# Altium integrated library TI Power Management Linear Regulator Dual Channel LDO.IntLib: 299 symbols (part 11 of 15)
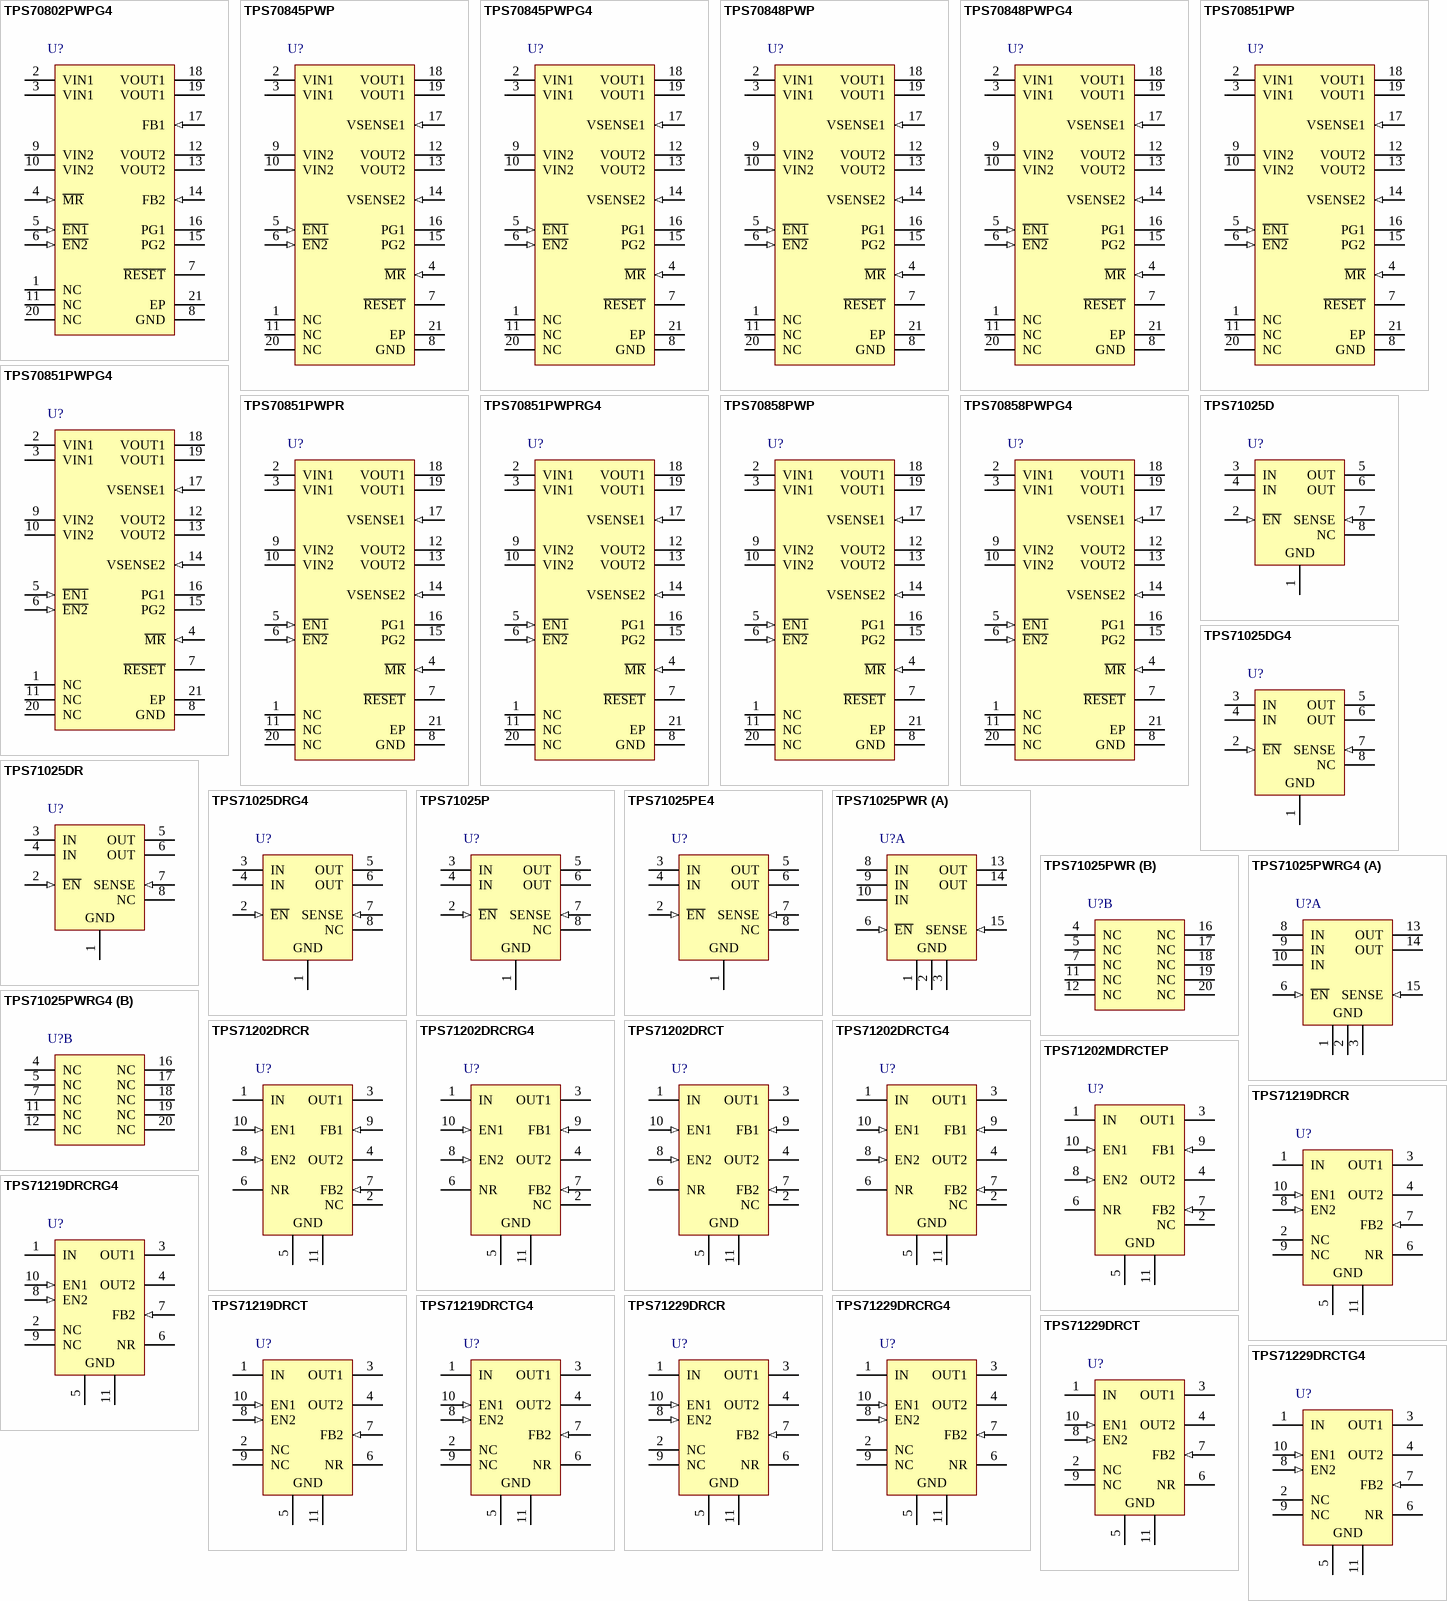
[diagram p21: symbols TPS70802PWPG4 to TPS71229DRCTG4]

## TPS70802PWPG4
designator U?
Dual Output LDO, 500 mA, 2.7 to 6 V Input, with Integrated SVS, 20-pin HTSSOP (PWP), -40 to 125 degC, Green (RoHS & no Sb/Br); Manufacturer: Texas Instruments; PartNumber: TPS70802PWPG4; Iout(Max)(A): 0.5; Iout2(A): 0.2; Iq(Typ)(mA): 0.19; SubFamily: Dual Channel LDO; Vdo(Typ)(mV): 83; Vin(Max)(V): 6; Vin(Min)(V): 2.7; Vout2(Max)(V): 5.5; Vout2(Min)(V): 1.2; DatasheetVersion: SLVS301D; PackageVersion: 4073225-4/I; PackageReference: PWP20-3005X2005TP; PackageDescription: 20-Pin Plastic Small Outline, Body 6.50 x 4.40 mm, Pitch 0.65 mm; Supplier 1: Digi-Key; Supplier Part Number 1: TPS70802PWPG4-ND; Supplier 2: Mouser; Supplier Part Number 2: 595-TPS70802PWPG4; Eco-Plan: Green (RoHS & no Sb/Br); Mounting Technology: Surface Mount; Code_JEDEC: MO-153; ComponentLink1Description: Manufacturer URL; ComponentLink1URL: http://www.ti.com/; ComponentLink2Description: Datasheet; ComponentLink2URL: http://www.ti.com/general/docs/lit/getliterature.tsp?genericPartNumber=TPS70802&fileType=pdf; ComponentLink3Description: Package Specification; ComponentLink3URL: http://www.ti.com/lit/ml/mhts001g/mhts001g.pdf
footprint TI-PWP20-3005X2005TP_N (SOP, 20-Leads, Body 6.5x4.4mm, Pitch 0.65mm, Thermal Pad 3.005 x 2.005mm, IPC Medium Density)
footprint TI-PWP20-3005X2005TP_L (SOP, 20-Leads, Body 6.5x4.4mm, Pitch 0.65mm, Thermal Pad 3.005 x 2.005mm, IPC High Density)
footprint TI-PWP20-3005X2005TP_M (SOP, 20-Leads, Body 6.5x4.4mm, Pitch 0.65mm, Thermal Pad 3.005 x 2.005mm, IPC Low Density)
pins: 1 NC "No connection", 2 VIN1 (power) "Input voltage of regulator 1", 3 VIN1 (power) "Input voltage of regulator 1", 4 ~{MR} (in) "Manual reset input, active low, pulled up internally", 5 ~{EN1} (in) "Active low enable for VOUT1", 6 ~{EN2} (in) "Active low enable for VOUT2", 7 ~{RESET} (hiz) "Open drain output, SVS (power-on reset) signal, active low", 8 GND (power) "Ground", 9 VIN2 (power) "Input voltage of regulator 2", 10 VIN2 (power) "Input voltage of regulator 2", 11 NC "No connection", 12 VOUT2 (power) "Output voltage of regulator 2", 13 VOUT2 (power) "Output voltage of regulator 2", 14 FB2 (in) "regulator 2 feedback for adjustable", 15 PG2 (hiz) "Open drain output, low when VOUT2 voltage is less than 95% of the nominal regulated voltage", 16 PG1 (hiz) "Open drain output, low when VOUT1 voltage is less than 95% of the nominal regulated voltage", 17 FB1 (in) "regulator 1 feedback for adjustable", 18 VOUT1 (power) "Output voltage of regulator 1", 19 VOUT1 (power) "Output voltage of regulator 1", 20 NC "No connection", 21 EP "Thermal pad"

## TPS70845PWP
designator U?
Dual Output LDO, 500 mA, Fixed 3.3, 1.2 V Output, 2.7 to 6 V Input, with Integrated SVS, 20-pin HTSSOP (PWP), -40 to 125 degC, Green (RoHS & no Sb/Br); Manufacturer: Texas Instruments; PartNumber: TPS70845PWP; Iout(Max)(A): 0.5; Iout2(A): 0.2; Iq(Typ)(mA): 0.19; SubFamily: Dual Channel LDO; Vdo(Typ)(mV): 83; Vin(Max)(V): 6; Vin(Min)(V): 2.7; Vout(Max)(V): 3.3; Vout2(Max)(V): 1.2; DatasheetVersion: SLVS301D; PackageVersion: 4073225-4/I; PackageReference: PWP20-3005X2005TP; PackageDescription: 20-Pin Plastic Small Outline, Body 6.50 x 4.40 mm, Pitch 0.65 mm; Supplier 1: Digi-Key; Supplier Part Number 1: 296-8037-5-ND; Supplier 2: Mouser; Supplier Part Number 2: 595-TPS70845PWP; Eco-Plan: Green (RoHS & no Sb/Br); Fixed Output Options(V): 3.3, 1.2; Vout(Min)(V): 3.3; Vout2(Min)(V): 1.2; Mounting Technology: Surface Mount; Code_JEDEC: MO-153; ComponentLink1Description: Manufacturer URL; ComponentLink1URL: http://www.ti.com/; ComponentLink2Description: Datasheet; ComponentLink2URL: http://www.ti.com/general/docs/lit/getliterature.tsp?genericPartNumber=TPS70845&fileType=pdf; ComponentLink3Description: Package Specification; ComponentLink3URL: http://www.ti.com/lit/ml/mhts001g/mhts001g.pdf
footprint TI-PWP20-3005X2005TP_N (SOP, 20-Leads, Body 6.5x4.4mm, Pitch 0.65mm, Thermal Pad 3.005 x 2.005mm, IPC Medium Density)
footprint TI-PWP20-3005X2005TP_L (SOP, 20-Leads, Body 6.5x4.4mm, Pitch 0.65mm, Thermal Pad 3.005 x 2.005mm, IPC High Density)
footprint TI-PWP20-3005X2005TP_M (SOP, 20-Leads, Body 6.5x4.4mm, Pitch 0.65mm, Thermal Pad 3.005 x 2.005mm, IPC Low Density)
pins: 1 NC "No connection", 2 VIN1 (power) "Input voltage of regulator 1", 3 VIN1 (power) "Input voltage of regulator 1", 4 ~{MR} (in) "Manual reset input, active low, pulled up internally", 5 ~{EN1} (in) "Active low enable for VOUT1", 6 ~{EN2} (in) "Active low enable for VOUT2", 7 ~{RESET} (hiz) "Open drain output, SVS (power-on reset) signal, active low", 8 GND (power) "Ground", 9 VIN2 (power) "Input voltage of regulator 2", 10 VIN2 (power) "Input voltage of regulator 2", 11 NC "No connection", 12 VOUT2 (power) "Output voltage of regulator 2", 13 VOUT2 (power) "Output voltage of regulator 2", 14 VSENSE2 (in) "Regulator 2 output voltage sense", 15 PG2 (hiz) "Open drain output, low when VOUT2 voltage is less than 95% of the nominal regulated voltage", 16 PG1 (hiz) "Open drain output, low when VOUT1 voltage is less than 95% of the nominal regulated voltage", 17 VSENSE1 (in) "Regulator 1 output voltage sense", 18 VOUT1 (power) "Output voltage of regulator 1", 19 VOUT1 (power) "Output voltage of regulator 1", 20 NC "No connection", 21 EP "Thermal pad"

## TPS70845PWPG4
designator U?
Dual Output LDO, 500 mA, Fixed 3.3, 1.2 V Output, 2.7 to 6 V Input, with Integrated SVS, 20-pin HTSSOP (PWP), -40 to 125 degC, Green (RoHS & no Sb/Br); Manufacturer: Texas Instruments; PartNumber: TPS70845PWPG4; Iout(Max)(A): 0.5; Iout2(A): 0.2; Iq(Typ)(mA): 0.19; SubFamily: Dual Channel LDO; Vdo(Typ)(mV): 83; Vin(Max)(V): 6; Vin(Min)(V): 2.7; Vout(Max)(V): 3.3; Vout2(Max)(V): 1.2; DatasheetVersion: SLVS301D; PackageVersion: 4073225-4/I; PackageReference: PWP20-3005X2005TP; PackageDescription: 20-Pin Plastic Small Outline, Body 6.50 x 4.40 mm, Pitch 0.65 mm; Supplier 1: Digi-Key; Supplier Part Number 1: TPS70845PWPG4-ND; Supplier 2: Mouser; Supplier Part Number 2: 595-TPS70845PWPG4; Eco-Plan: Green (RoHS & no Sb/Br); Fixed Output Options(V): 3.3, 1.2; Vout(Min)(V): 3.3; Vout2(Min)(V): 1.2; Mounting Technology: Surface Mount; Code_JEDEC: MO-153; ComponentLink1Description: Manufacturer URL; ComponentLink1URL: http://www.ti.com/; ComponentLink2Description: Datasheet; ComponentLink2URL: http://www.ti.com/general/docs/lit/getliterature.tsp?genericPartNumber=TPS70845&fileType=pdf; ComponentLink3Description: Package Specification; ComponentLink3URL: http://www.ti.com/lit/ml/mhts001g/mhts001g.pdf
footprint TI-PWP20-3005X2005TP_N (SOP, 20-Leads, Body 6.5x4.4mm, Pitch 0.65mm, Thermal Pad 3.005 x 2.005mm, IPC Medium Density)
footprint TI-PWP20-3005X2005TP_L (SOP, 20-Leads, Body 6.5x4.4mm, Pitch 0.65mm, Thermal Pad 3.005 x 2.005mm, IPC High Density)
footprint TI-PWP20-3005X2005TP_M (SOP, 20-Leads, Body 6.5x4.4mm, Pitch 0.65mm, Thermal Pad 3.005 x 2.005mm, IPC Low Density)
pins: 1 NC "No connection", 2 VIN1 (power) "Input voltage of regulator 1", 3 VIN1 (power) "Input voltage of regulator 1", 4 ~{MR} (in) "Manual reset input, active low, pulled up internally", 5 ~{EN1} (in) "Active low enable for VOUT1", 6 ~{EN2} (in) "Active low enable for VOUT2", 7 ~{RESET} (hiz) "Open drain output, SVS (power-on reset) signal, active low", 8 GND (power) "Ground", 9 VIN2 (power) "Input voltage of regulator 2", 10 VIN2 (power) "Input voltage of regulator 2", 11 NC "No connection", 12 VOUT2 (power) "Output voltage of regulator 2", 13 VOUT2 (power) "Output voltage of regulator 2", 14 VSENSE2 (in) "Regulator 2 output voltage sense", 15 PG2 (hiz) "Open drain output, low when VOUT2 voltage is less than 95% of the nominal regulated voltage", 16 PG1 (hiz) "Open drain output, low when VOUT1 voltage is less than 95% of the nominal regulated voltage", 17 VSENSE1 (in) "Regulator 1 output voltage sense", 18 VOUT1 (power) "Output voltage of regulator 1", 19 VOUT1 (power) "Output voltage of regulator 1", 20 NC "No connection", 21 EP "Thermal pad"

## TPS70848PWP
designator U?
Dual Output LDO, 500 mA, Fixed 3.3, 1.5 V Output, 2.7 to 6 V Input, with Integrated SVS, 20-pin HTSSOP (PWP), -40 to 125 degC, Green (RoHS & no Sb/Br); Manufacturer: Texas Instruments; PartNumber: TPS70848PWP; Iout(Max)(A): 0.5; Iout2(A): 0.2; Iq(Typ)(mA): 0.19; SubFamily: Dual Channel LDO; Vdo(Typ)(mV): 83; Vin(Max)(V): 6; Vin(Min)(V): 2.7; Vout(Max)(V): 3.3; Vout2(Max)(V): 1.5; DatasheetVersion: SLVS301D; PackageVersion: 4073225-4/I; PackageReference: PWP20-3005X2005TP; PackageDescription: 20-Pin Plastic Small Outline, Body 6.50 x 4.40 mm, Pitch 0.65 mm; Supplier 1: Digi-Key; Supplier Part Number 1: 296-8038-5-ND; Supplier 2: Newark; Supplier Part Number 2: 77C0794; Supplier 3: Mouser; Supplier Part Number 3: 595-TPS70848PWP; Eco-Plan: Green (RoHS & no Sb/Br); Fixed Output Options(V): 3.3, 1.5; Vout(Min)(V): 3.3; Vout2(Min)(V): 1.5; Mounting Technology: Surface Mount; Code_JEDEC: MO-153; ComponentLink1Description: Manufacturer URL; ComponentLink1URL: http://www.ti.com/; ComponentLink2Description: Datasheet; ComponentLink2URL: http://www.ti.com/general/docs/lit/getliterature.tsp?genericPartNumber=TPS70848&fileType=pdf; ComponentLink3Description: Package Specification; ComponentLink3URL: http://www.ti.com/lit/ml/mhts001g/mhts001g.pdf
footprint TI-PWP20-3005X2005TP_N (SOP, 20-Leads, Body 6.5x4.4mm, Pitch 0.65mm, Thermal Pad 3.005 x 2.005mm, IPC Medium Density)
footprint TI-PWP20-3005X2005TP_L (SOP, 20-Leads, Body 6.5x4.4mm, Pitch 0.65mm, Thermal Pad 3.005 x 2.005mm, IPC High Density)
footprint TI-PWP20-3005X2005TP_M (SOP, 20-Leads, Body 6.5x4.4mm, Pitch 0.65mm, Thermal Pad 3.005 x 2.005mm, IPC Low Density)
pins: 1 NC "No connection", 2 VIN1 (power) "Input voltage of regulator 1", 3 VIN1 (power) "Input voltage of regulator 1", 4 ~{MR} (in) "Manual reset input, active low, pulled up internally", 5 ~{EN1} (in) "Active low enable for VOUT1", 6 ~{EN2} (in) "Active low enable for VOUT2", 7 ~{RESET} (hiz) "Open drain output, SVS (power-on reset) signal, active low", 8 GND (power) "Ground", 9 VIN2 (power) "Input voltage of regulator 2", 10 VIN2 (power) "Input voltage of regulator 2", 11 NC "No connection", 12 VOUT2 (power) "Output voltage of regulator 2", 13 VOUT2 (power) "Output voltage of regulator 2", 14 VSENSE2 (in) "Regulator 2 output voltage sense", 15 PG2 (hiz) "Open drain output, low when VOUT2 voltage is less than 95% of the nominal regulated voltage", 16 PG1 (hiz) "Open drain output, low when VOUT1 voltage is less than 95% of the nominal regulated voltage", 17 VSENSE1 (in) "Regulator 1 output voltage sense", 18 VOUT1 (power) "Output voltage of regulator 1", 19 VOUT1 (power) "Output voltage of regulator 1", 20 NC "No connection", 21 EP "Thermal pad"

## TPS70848PWPG4
designator U?
Dual Output LDO, 500 mA, Fixed 3.3, 1.5 V Output, 2.7 to 6 V Input, with Integrated SVS, 20-pin HTSSOP (PWP), -40 to 125 degC, Green (RoHS & no Sb/Br); Manufacturer: Texas Instruments; PartNumber: TPS70848PWPG4; Iout(Max)(A): 0.5; Iout2(A): 0.2; Iq(Typ)(mA): 0.19; SubFamily: Dual Channel LDO; Vdo(Typ)(mV): 83; Vin(Max)(V): 6; Vin(Min)(V): 2.7; Vout(Max)(V): 3.3; Vout2(Max)(V): 1.5; DatasheetVersion: SLVS301D; PackageVersion: 4073225-4/I; PackageReference: PWP20-3005X2005TP; PackageDescription: 20-Pin Plastic Small Outline, Body 6.50 x 4.40 mm, Pitch 0.65 mm; Supplier 1: Digi-Key; Supplier Part Number 1: TPS70848PWPG4-ND; Supplier 2: Mouser; Supplier Part Number 2: 595-TPS70848PWPG4; Eco-Plan: Green (RoHS & no Sb/Br); Fixed Output Options(V): 3.3, 1.5; Vout(Min)(V): 3.3; Vout2(Min)(V): 1.5; Mounting Technology: Surface Mount; Code_JEDEC: MO-153; ComponentLink1Description: Manufacturer URL; ComponentLink1URL: http://www.ti.com/; ComponentLink2Description: Datasheet; ComponentLink2URL: http://www.ti.com/general/docs/lit/getliterature.tsp?genericPartNumber=TPS70848&fileType=pdf; ComponentLink3Description: Package Specification; ComponentLink3URL: http://www.ti.com/lit/ml/mhts001g/mhts001g.pdf
footprint TI-PWP20-3005X2005TP_N (SOP, 20-Leads, Body 6.5x4.4mm, Pitch 0.65mm, Thermal Pad 3.005 x 2.005mm, IPC Medium Density)
footprint TI-PWP20-3005X2005TP_L (SOP, 20-Leads, Body 6.5x4.4mm, Pitch 0.65mm, Thermal Pad 3.005 x 2.005mm, IPC High Density)
footprint TI-PWP20-3005X2005TP_M (SOP, 20-Leads, Body 6.5x4.4mm, Pitch 0.65mm, Thermal Pad 3.005 x 2.005mm, IPC Low Density)
pins: 1 NC "No connection", 2 VIN1 (power) "Input voltage of regulator 1", 3 VIN1 (power) "Input voltage of regulator 1", 4 ~{MR} (in) "Manual reset input, active low, pulled up internally", 5 ~{EN1} (in) "Active low enable for VOUT1", 6 ~{EN2} (in) "Active low enable for VOUT2", 7 ~{RESET} (hiz) "Open drain output, SVS (power-on reset) signal, active low", 8 GND (power) "Ground", 9 VIN2 (power) "Input voltage of regulator 2", 10 VIN2 (power) "Input voltage of regulator 2", 11 NC "No connection", 12 VOUT2 (power) "Output voltage of regulator 2", 13 VOUT2 (power) "Output voltage of regulator 2", 14 VSENSE2 (in) "Regulator 2 output voltage sense", 15 PG2 (hiz) "Open drain output, low when VOUT2 voltage is less than 95% of the nominal regulated voltage", 16 PG1 (hiz) "Open drain output, low when VOUT1 voltage is less than 95% of the nominal regulated voltage", 17 VSENSE1 (in) "Regulator 1 output voltage sense", 18 VOUT1 (power) "Output voltage of regulator 1", 19 VOUT1 (power) "Output voltage of regulator 1", 20 NC "No connection", 21 EP "Thermal pad"

## TPS70851PWP
designator U?
Dual Output LDO, 500 mA, Fixed 3.3, 1.8 V Output, 2.7 to 6 V Input, with Integrated SVS, 20-pin HTSSOP (PWP), -40 to 125 degC, Green (RoHS & no Sb/Br); Manufacturer: Texas Instruments; PartNumber: TPS70851PWP; Iout(Max)(A): 0.5; Iout2(A): 0.2; Iq(Typ)(mA): 0.19; SubFamily: Dual Channel LDO; Vdo(Typ)(mV): 83; Vin(Max)(V): 6; Vin(Min)(V): 2.7; Vout(Max)(V): 3.3; Vout2(Max)(V): 1.8; DatasheetVersion: SLVS301D; PackageVersion: 4073225-4/I; PackageReference: PWP20-3005X2005TP; PackageDescription: 20-Pin Plastic Small Outline, Body 6.50 x 4.40 mm, Pitch 0.65 mm; Supplier 1: Digi-Key; Supplier Part Number 1: 296-8039-5-ND; Supplier 2: Newark; Supplier Part Number 2: 77C0796; Supplier 3: Mouser; Supplier Part Number 3: 595-TPS70851PWP; Eco-Plan: Green (RoHS & no Sb/Br); Fixed Output Options(V): 3.3, 1.8; Vout(Min)(V): 3.3; Vout2(Min)(V): 1.8; Mounting Technology: Surface Mount; Code_JEDEC: MO-153; ComponentLink1Description: Manufacturer URL; ComponentLink1URL: http://www.ti.com/; ComponentLink2Description: Datasheet; ComponentLink2URL: http://www.ti.com/general/docs/lit/getliterature.tsp?genericPartNumber=TPS70851&fileType=pdf; ComponentLink3Description: Package Specification; ComponentLink3URL: http://www.ti.com/lit/ml/mhts001g/mhts001g.pdf
footprint TI-PWP20-3005X2005TP_N (SOP, 20-Leads, Body 6.5x4.4mm, Pitch 0.65mm, Thermal Pad 3.005 x 2.005mm, IPC Medium Density)
footprint TI-PWP20-3005X2005TP_L (SOP, 20-Leads, Body 6.5x4.4mm, Pitch 0.65mm, Thermal Pad 3.005 x 2.005mm, IPC High Density)
footprint TI-PWP20-3005X2005TP_M (SOP, 20-Leads, Body 6.5x4.4mm, Pitch 0.65mm, Thermal Pad 3.005 x 2.005mm, IPC Low Density)
pins: 1 NC "No connection", 2 VIN1 (power) "Input voltage of regulator 1", 3 VIN1 (power) "Input voltage of regulator 1", 4 ~{MR} (in) "Manual reset input, active low, pulled up internally", 5 ~{EN1} (in) "Active low enable for VOUT1", 6 ~{EN2} (in) "Active low enable for VOUT2", 7 ~{RESET} (hiz) "Open drain output, SVS (power-on reset) signal, active low", 8 GND (power) "Ground", 9 VIN2 (power) "Input voltage of regulator 2", 10 VIN2 (power) "Input voltage of regulator 2", 11 NC "No connection", 12 VOUT2 (power) "Output voltage of regulator 2", 13 VOUT2 (power) "Output voltage of regulator 2", 14 VSENSE2 (in) "Regulator 2 output voltage sense", 15 PG2 (hiz) "Open drain output, low when VOUT2 voltage is less than 95% of the nominal regulated voltage", 16 PG1 (hiz) "Open drain output, low when VOUT1 voltage is less than 95% of the nominal regulated voltage", 17 VSENSE1 (in) "Regulator 1 output voltage sense", 18 VOUT1 (power) "Output voltage of regulator 1", 19 VOUT1 (power) "Output voltage of regulator 1", 20 NC "No connection", 21 EP "Thermal pad"

## TPS70851PWPG4
designator U?
Dual Output LDO, 500 mA, Fixed 3.3, 1.8 V Output, 2.7 to 6 V Input, with Integrated SVS, 20-pin HTSSOP (PWP), -40 to 125 degC, Green (RoHS & no Sb/Br); Manufacturer: Texas Instruments; PartNumber: TPS70851PWPG4; Iout(Max)(A): 0.5; Iout2(A): 0.2; Iq(Typ)(mA): 0.19; SubFamily: Dual Channel LDO; Vdo(Typ)(mV): 83; Vin(Max)(V): 6; Vin(Min)(V): 2.7; Vout(Max)(V): 3.3; Vout2(Max)(V): 1.8; DatasheetVersion: SLVS301D; PackageVersion: 4073225-4/I; PackageReference: PWP20-3005X2005TP; PackageDescription: 20-Pin Plastic Small Outline, Body 6.50 x 4.40 mm, Pitch 0.65 mm; Supplier 1: Digi-Key; Supplier Part Number 1: TPS70851PWPG4-ND; Supplier 2: Newark; Supplier Part Number 2: 70K5767; Supplier 3: Mouser; Supplier Part Number 3: 595-TPS70851PWPG4; Eco-Plan: Green (RoHS & no Sb/Br); Fixed Output Options(V): 3.3, 1.8; Vout(Min)(V): 3.3; Vout2(Min)(V): 1.8; Mounting Technology: Surface Mount; Code_JEDEC: MO-153; ComponentLink1Description: Manufacturer URL; ComponentLink1URL: http://www.ti.com/; ComponentLink2Description: Datasheet; ComponentLink2URL: http://www.ti.com/general/docs/lit/getliterature.tsp?genericPartNumber=TPS70851&fileType=pdf; ComponentLink3Description: Package Specification; ComponentLink3URL: http://www.ti.com/lit/ml/mhts001g/mhts001g.pdf
footprint TI-PWP20-3005X2005TP_N (SOP, 20-Leads, Body 6.5x4.4mm, Pitch 0.65mm, Thermal Pad 3.005 x 2.005mm, IPC Medium Density)
footprint TI-PWP20-3005X2005TP_L (SOP, 20-Leads, Body 6.5x4.4mm, Pitch 0.65mm, Thermal Pad 3.005 x 2.005mm, IPC High Density)
footprint TI-PWP20-3005X2005TP_M (SOP, 20-Leads, Body 6.5x4.4mm, Pitch 0.65mm, Thermal Pad 3.005 x 2.005mm, IPC Low Density)
pins: 1 NC "No connection", 2 VIN1 (power) "Input voltage of regulator 1", 3 VIN1 (power) "Input voltage of regulator 1", 4 ~{MR} (in) "Manual reset input, active low, pulled up internally", 5 ~{EN1} (in) "Active low enable for VOUT1", 6 ~{EN2} (in) "Active low enable for VOUT2", 7 ~{RESET} (hiz) "Open drain output, SVS (power-on reset) signal, active low", 8 GND (power) "Ground", 9 VIN2 (power) "Input voltage of regulator 2", 10 VIN2 (power) "Input voltage of regulator 2", 11 NC "No connection", 12 VOUT2 (power) "Output voltage of regulator 2", 13 VOUT2 (power) "Output voltage of regulator 2", 14 VSENSE2 (in) "Regulator 2 output voltage sense", 15 PG2 (hiz) "Open drain output, low when VOUT2 voltage is less than 95% of the nominal regulated voltage", 16 PG1 (hiz) "Open drain output, low when VOUT1 voltage is less than 95% of the nominal regulated voltage", 17 VSENSE1 (in) "Regulator 1 output voltage sense", 18 VOUT1 (power) "Output voltage of regulator 1", 19 VOUT1 (power) "Output voltage of regulator 1", 20 NC "No connection", 21 EP "Thermal pad"

## TPS70851PWPR
designator U?
Dual Output LDO, 500 mA, Fixed 3.3, 1.8 V Output, 2.7 to 6 V Input, with Integrated SVS, 20-pin HTSSOP (PWP), -40 to 125 degC, Green (RoHS & no Sb/Br); Manufacturer: Texas Instruments; PartNumber: TPS70851PWPR; Iout(Max)(A): 0.5; Iout2(A): 0.2; Iq(Typ)(mA): 0.19; SubFamily: Dual Channel LDO; Vdo(Typ)(mV): 83; Vin(Max)(V): 6; Vin(Min)(V): 2.7; Vout(Max)(V): 3.3; Vout2(Max)(V): 1.8; DatasheetVersion: SLVS301D; PackageVersion: 4073225-4/I; PackageReference: PWP20-3005X2005TP; PackageDescription: 20-Pin Plastic Small Outline, Body 6.50 x 4.40 mm, Pitch 0.65 mm; Supplier 1: Digi-Key; Supplier Part Number 1: TPS70851PWPR-ND; Supplier 2: Mouser; Supplier Part Number 2: 595-TPS70851PWPR; Eco-Plan: Green (RoHS & no Sb/Br); Fixed Output Options(V): 3.3, 1.8; Vout(Min)(V): 3.3; Vout2(Min)(V): 1.8; Mounting Technology: Surface Mount; Code_JEDEC: MO-153; ComponentLink1Description: Manufacturer URL; ComponentLink1URL: http://www.ti.com/; ComponentLink2Description: Datasheet; ComponentLink2URL: http://www.ti.com/general/docs/lit/getliterature.tsp?genericPartNumber=TPS70851&fileType=pdf; ComponentLink3Description: Package Specification; ComponentLink3URL: http://www.ti.com/lit/ml/mhts001g/mhts001g.pdf
footprint TI-PWP20-3005X2005TP_N (SOP, 20-Leads, Body 6.5x4.4mm, Pitch 0.65mm, Thermal Pad 3.005 x 2.005mm, IPC Medium Density)
footprint TI-PWP20-3005X2005TP_L (SOP, 20-Leads, Body 6.5x4.4mm, Pitch 0.65mm, Thermal Pad 3.005 x 2.005mm, IPC High Density)
footprint TI-PWP20-3005X2005TP_M (SOP, 20-Leads, Body 6.5x4.4mm, Pitch 0.65mm, Thermal Pad 3.005 x 2.005mm, IPC Low Density)
pins: 1 NC "No connection", 2 VIN1 (power) "Input voltage of regulator 1", 3 VIN1 (power) "Input voltage of regulator 1", 4 ~{MR} (in) "Manual reset input, active low, pulled up internally", 5 ~{EN1} (in) "Active low enable for VOUT1", 6 ~{EN2} (in) "Active low enable for VOUT2", 7 ~{RESET} (hiz) "Open drain output, SVS (power-on reset) signal, active low", 8 GND (power) "Ground", 9 VIN2 (power) "Input voltage of regulator 2", 10 VIN2 (power) "Input voltage of regulator 2", 11 NC "No connection", 12 VOUT2 (power) "Output voltage of regulator 2", 13 VOUT2 (power) "Output voltage of regulator 2", 14 VSENSE2 (in) "Regulator 2 output voltage sense", 15 PG2 (hiz) "Open drain output, low when VOUT2 voltage is less than 95% of the nominal regulated voltage", 16 PG1 (hiz) "Open drain output, low when VOUT1 voltage is less than 95% of the nominal regulated voltage", 17 VSENSE1 (in) "Regulator 1 output voltage sense", 18 VOUT1 (power) "Output voltage of regulator 1", 19 VOUT1 (power) "Output voltage of regulator 1", 20 NC "No connection", 21 EP "Thermal pad"

## TPS70851PWPRG4
designator U?
Dual Output LDO, 500 mA, Fixed 3.3, 1.8 V Output, 2.7 to 6 V Input, with Integrated SVS, 20-pin HTSSOP (PWP), -40 to 125 degC, Green (RoHS & no Sb/Br); Manufacturer: Texas Instruments; PartNumber: TPS70851PWPRG4; Iout(Max)(A): 0.5; Iout2(A): 0.2; Iq(Typ)(mA): 0.19; SubFamily: Dual Channel LDO; Vdo(Typ)(mV): 83; Vin(Max)(V): 6; Vin(Min)(V): 2.7; Vout(Max)(V): 3.3; Vout2(Max)(V): 1.8; DatasheetVersion: SLVS301D; PackageVersion: 4073225-4/I; PackageReference: PWP20-3005X2005TP; PackageDescription: 20-Pin Plastic Small Outline, Body 6.50 x 4.40 mm, Pitch 0.65 mm; Supplier 1: Digi-Key; Supplier Part Number 1: TPS70851PWPRG4-ND; Supplier 2: Mouser; Supplier Part Number 2: 595-TPS70851PWPRG4; Eco-Plan: Green (RoHS & no Sb/Br); Fixed Output Options(V): 3.3, 1.8; Vout(Min)(V): 3.3; Vout2(Min)(V): 1.8; Mounting Technology: Surface Mount; Code_JEDEC: MO-153; ComponentLink1Description: Manufacturer URL; ComponentLink1URL: http://www.ti.com/; ComponentLink2Description: Datasheet; ComponentLink2URL: http://www.ti.com/general/docs/lit/getliterature.tsp?genericPartNumber=TPS70851&fileType=pdf; ComponentLink3Description: Package Specification; ComponentLink3URL: http://www.ti.com/lit/ml/mhts001g/mhts001g.pdf
footprint TI-PWP20-3005X2005TP_N (SOP, 20-Leads, Body 6.5x4.4mm, Pitch 0.65mm, Thermal Pad 3.005 x 2.005mm, IPC Medium Density)
footprint TI-PWP20-3005X2005TP_L (SOP, 20-Leads, Body 6.5x4.4mm, Pitch 0.65mm, Thermal Pad 3.005 x 2.005mm, IPC High Density)
footprint TI-PWP20-3005X2005TP_M (SOP, 20-Leads, Body 6.5x4.4mm, Pitch 0.65mm, Thermal Pad 3.005 x 2.005mm, IPC Low Density)
pins: 1 NC "No connection", 2 VIN1 (power) "Input voltage of regulator 1", 3 VIN1 (power) "Input voltage of regulator 1", 4 ~{MR} (in) "Manual reset input, active low, pulled up internally", 5 ~{EN1} (in) "Active low enable for VOUT1", 6 ~{EN2} (in) "Active low enable for VOUT2", 7 ~{RESET} (hiz) "Open drain output, SVS (power-on reset) signal, active low", 8 GND (power) "Ground", 9 VIN2 (power) "Input voltage of regulator 2", 10 VIN2 (power) "Input voltage of regulator 2", 11 NC "No connection", 12 VOUT2 (power) "Output voltage of regulator 2", 13 VOUT2 (power) "Output voltage of regulator 2", 14 VSENSE2 (in) "Regulator 2 output voltage sense", 15 PG2 (hiz) "Open drain output, low when VOUT2 voltage is less than 95% of the nominal regulated voltage", 16 PG1 (hiz) "Open drain output, low when VOUT1 voltage is less than 95% of the nominal regulated voltage", 17 VSENSE1 (in) "Regulator 1 output voltage sense", 18 VOUT1 (power) "Output voltage of regulator 1", 19 VOUT1 (power) "Output voltage of regulator 1", 20 NC "No connection", 21 EP "Thermal pad"

## TPS70858PWP
designator U?
Dual Output LDO, 500 mA, Fixed 3.3, 2.5 V Output, 2.7 to 6 V Input, with Integrated SVS, 20-pin HTSSOP (PWP), -40 to 125 degC, Green (RoHS & no Sb/Br); Manufacturer: Texas Instruments; PartNumber: TPS70858PWP; Iout(Max)(A): 0.5; Iout2(A): 0.2; Iq(Typ)(mA): 0.19; SubFamily: Dual Channel LDO; Vdo(Typ)(mV): 83; Vin(Max)(V): 6; Vin(Min)(V): 2.7; Vout(Max)(V): 3.3; Vout2(Max)(V): 2.5; DatasheetVersion: SLVS301D; PackageVersion: 4073225-4/I; PackageReference: PWP20-3005X2005TP; PackageDescription: 20-Pin Plastic Small Outline, Body 6.50 x 4.40 mm, Pitch 0.65 mm; Supplier 1: Digi-Key; Supplier Part Number 1: 296-8040-5-ND; Supplier 2: Mouser; Supplier Part Number 2: 595-TPS70858PWP; Eco-Plan: Green (RoHS & no Sb/Br); Fixed Output Options(V): 3.3, 2.5; Vout(Min)(V): 3.3; Vout2(Min)(V): 2.5; Mounting Technology: Surface Mount; Code_JEDEC: MO-153; ComponentLink1Description: Manufacturer URL; ComponentLink1URL: http://www.ti.com/; ComponentLink2Description: Datasheet; ComponentLink2URL: http://www.ti.com/general/docs/lit/getliterature.tsp?genericPartNumber=TPS70858&fileType=pdf; ComponentLink3Description: Package Specification; ComponentLink3URL: http://www.ti.com/lit/ml/mhts001g/mhts001g.pdf
footprint TI-PWP20-3005X2005TP_N (SOP, 20-Leads, Body 6.5x4.4mm, Pitch 0.65mm, Thermal Pad 3.005 x 2.005mm, IPC Medium Density)
footprint TI-PWP20-3005X2005TP_L (SOP, 20-Leads, Body 6.5x4.4mm, Pitch 0.65mm, Thermal Pad 3.005 x 2.005mm, IPC High Density)
footprint TI-PWP20-3005X2005TP_M (SOP, 20-Leads, Body 6.5x4.4mm, Pitch 0.65mm, Thermal Pad 3.005 x 2.005mm, IPC Low Density)
pins: 1 NC "No connection", 2 VIN1 (power) "Input voltage of regulator 1", 3 VIN1 (power) "Input voltage of regulator 1", 4 ~{MR} (in) "Manual reset input, active low, pulled up internally", 5 ~{EN1} (in) "Active low enable for VOUT1", 6 ~{EN2} (in) "Active low enable for VOUT2", 7 ~{RESET} (hiz) "Open drain output, SVS (power-on reset) signal, active low", 8 GND (power) "Ground", 9 VIN2 (power) "Input voltage of regulator 2", 10 VIN2 (power) "Input voltage of regulator 2", 11 NC "No connection", 12 VOUT2 (power) "Output voltage of regulator 2", 13 VOUT2 (power) "Output voltage of regulator 2", 14 VSENSE2 (in) "Regulator 2 output voltage sense", 15 PG2 (hiz) "Open drain output, low when VOUT2 voltage is less than 95% of the nominal regulated voltage", 16 PG1 (hiz) "Open drain output, low when VOUT1 voltage is less than 95% of the nominal regulated voltage", 17 VSENSE1 (in) "Regulator 1 output voltage sense", 18 VOUT1 (power) "Output voltage of regulator 1", 19 VOUT1 (power) "Output voltage of regulator 1", 20 NC "No connection", 21 EP "Thermal pad"

## TPS70858PWPG4
designator U?
Dual Output LDO, 500 mA, Fixed 3.3, 2.5 V Output, 2.7 to 6 V Input, with Integrated SVS, 20-pin HTSSOP (PWP), -40 to 125 degC, Green (RoHS & no Sb/Br); Manufacturer: Texas Instruments; PartNumber: TPS70858PWPG4; Iout(Max)(A): 0.5; Iout2(A): 0.2; Iq(Typ)(mA): 0.19; SubFamily: Dual Channel LDO; Vdo(Typ)(mV): 83; Vin(Max)(V): 6; Vin(Min)(V): 2.7; Vout(Max)(V): 3.3; Vout2(Max)(V): 2.5; DatasheetVersion: SLVS301D; PackageVersion: 4073225-4/I; PackageReference: PWP20-3005X2005TP; PackageDescription: 20-Pin Plastic Small Outline, Body 6.50 x 4.40 mm, Pitch 0.65 mm; Supplier 1: Digi-Key; Supplier Part Number 1: TPS70858PWPG4-ND; Supplier 2: Mouser; Supplier Part Number 2: 595-TPS70858PWPG4; Eco-Plan: Green (RoHS & no Sb/Br); Fixed Output Options(V): 3.3, 2.5; Vout(Min)(V): 3.3; Vout2(Min)(V): 2.5; Mounting Technology: Surface Mount; Code_JEDEC: MO-153; ComponentLink1Description: Manufacturer URL; ComponentLink1URL: http://www.ti.com/; ComponentLink2Description: Datasheet; ComponentLink2URL: http://www.ti.com/general/docs/lit/getliterature.tsp?genericPartNumber=TPS70858&fileType=pdf; ComponentLink3Description: Package Specification; ComponentLink3URL: http://www.ti.com/lit/ml/mhts001g/mhts001g.pdf
footprint TI-PWP20-3005X2005TP_N (SOP, 20-Leads, Body 6.5x4.4mm, Pitch 0.65mm, Thermal Pad 3.005 x 2.005mm, IPC Medium Density)
footprint TI-PWP20-3005X2005TP_L (SOP, 20-Leads, Body 6.5x4.4mm, Pitch 0.65mm, Thermal Pad 3.005 x 2.005mm, IPC High Density)
footprint TI-PWP20-3005X2005TP_M (SOP, 20-Leads, Body 6.5x4.4mm, Pitch 0.65mm, Thermal Pad 3.005 x 2.005mm, IPC Low Density)
pins: 1 NC "No connection", 2 VIN1 (power) "Input voltage of regulator 1", 3 VIN1 (power) "Input voltage of regulator 1", 4 ~{MR} (in) "Manual reset input, active low, pulled up internally", 5 ~{EN1} (in) "Active low enable for VOUT1", 6 ~{EN2} (in) "Active low enable for VOUT2", 7 ~{RESET} (hiz) "Open drain output, SVS (power-on reset) signal, active low", 8 GND (power) "Ground", 9 VIN2 (power) "Input voltage of regulator 2", 10 VIN2 (power) "Input voltage of regulator 2", 11 NC "No connection", 12 VOUT2 (power) "Output voltage of regulator 2", 13 VOUT2 (power) "Output voltage of regulator 2", 14 VSENSE2 (in) "Regulator 2 output voltage sense", 15 PG2 (hiz) "Open drain output, low when VOUT2 voltage is less than 95% of the nominal regulated voltage", 16 PG1 (hiz) "Open drain output, low when VOUT1 voltage is less than 95% of the nominal regulated voltage", 17 VSENSE1 (in) "Regulator 1 output voltage sense", 18 VOUT1 (power) "Output voltage of regulator 1", 19 VOUT1 (power) "Output voltage of regulator 1", 20 NC "No connection", 21 EP "Thermal pad"

## TPS71025D
designator U?
Dual Output LDO, 500 mA, Fixed 2.5 V Output, 2.97 to 10 V Input, 8-pin SOIC (D), 0 to 125 degC, Green (RoHS & no Sb/Br); Manufacturer: Texas Instruments; PartNumber: TPS71025D; Fixed Output Options(V): 2.5; Iout(Max)(A): 0.5; Iq(Typ)(mA): 0.28; SubFamily: Dual Channel LDO; Vdo(Typ)(mV): 330; Vin(Max)(V): 10; Vin(Min)(V): 2.97; DatasheetVersion: SLVS162A; PackageVersion: 4040047-3/M; PackageReference: D8; PackageDescription: 8-Pin Plastic Small Outline, Body 4.9 x 3.9 mm, Pitch 1.27 mm; Supplier 1: Digi-Key; Supplier Part Number 1: 296-8043-5-ND; Supplier 2: Newark; Supplier Part Number 2: 67K1291; Supplier 3: Mouser; Supplier Part Number 3: 595-TPS71025D; Eco-Plan: Green (RoHS & no Sb/Br); Vout(Max)(V): 2.5; Vout(Min)(V): 2.5; Mounting Technology: Surface Mount; Code_JEDEC: MS-012; ComponentLink1Description: Manufacturer URL; ComponentLink1URL: http://www.ti.com/; ComponentLink2Description: Datasheet; ComponentLink2URL: http://www.ti.com/general/docs/lit/getliterature.tsp?genericPartNumber=TPS71025&fileType=pdf; ComponentLink3Description: Package Specification; ComponentLink3URL: http://www.ti.com/litv/pdf/msoi002j
footprint TI-D8_N (SOIC, 8-Leads, Body 4.9x3.9mm, Pitch 1.27mm, IPC Medium Density)
footprint TI-D8_L (SOIC, 8-Leads, Body 4.9x3.9mm, Pitch 1.27mm, IPC High Density)
footprint TI-D8_M (SOIC, 8-Leads, Body 4.9x3.9mm, Pitch 1.27mm, IPC Low Density)
pins: 1 GND (power) "Ground", 2 ~{EN} (in) "Enable input. Logic low enables output", 3 IN (power) "Input supply voltage", 4 IN (power) "Input supply voltage", 5 OUT (power) "Output voltage", 6 OUT (power) "Output voltage", 7 SENSE (in) "Output voltage sense input", 8 NC "No Connection"

## TPS71025DG4
designator U?
Dual Output LDO, 500 mA, Fixed 2.5 V Output, 2.97 to 10 V Input, 8-pin SOIC (D), 0 to 125 degC, Green (RoHS & no Sb/Br); Manufacturer: Texas Instruments; PartNumber: TPS71025DG4; Fixed Output Options(V): 2.5; Iout(Max)(A): 0.5; Iq(Typ)(mA): 0.28; SubFamily: Dual Channel LDO; Vdo(Typ)(mV): 330; Vin(Max)(V): 10; Vin(Min)(V): 2.97; DatasheetVersion: SLVS162A; PackageVersion: 4040047-3/M; PackageReference: D8; PackageDescription: 8-Pin Plastic Small Outline, Body 4.9 x 3.9 mm, Pitch 1.27 mm; Supplier 1: Digi-Key; Supplier Part Number 1: TPS71025DG4-ND; Supplier 2: Mouser; Supplier Part Number 2: 595-TPS71025DG4; Eco-Plan: Green (RoHS & no Sb/Br); Vout(Max)(V): 2.5; Vout(Min)(V): 2.5; Mounting Technology: Surface Mount; Code_JEDEC: MS-012; ComponentLink1Description: Manufacturer URL; ComponentLink1URL: http://www.ti.com/; ComponentLink2Description: Datasheet; ComponentLink2URL: http://www.ti.com/general/docs/lit/getliterature.tsp?genericPartNumber=TPS71025&fileType=pdf; ComponentLink3Description: Package Specification; ComponentLink3URL: http://www.ti.com/litv/pdf/msoi002j
footprint TI-D8_N (SOIC, 8-Leads, Body 4.9x3.9mm, Pitch 1.27mm, IPC Medium Density)
footprint TI-D8_L (SOIC, 8-Leads, Body 4.9x3.9mm, Pitch 1.27mm, IPC High Density)
footprint TI-D8_M (SOIC, 8-Leads, Body 4.9x3.9mm, Pitch 1.27mm, IPC Low Density)
pins: 1 GND (power) "Ground", 2 ~{EN} (in) "Enable input. Logic low enables output", 3 IN (power) "Input supply voltage", 4 IN (power) "Input supply voltage", 5 OUT (power) "Output voltage", 6 OUT (power) "Output voltage", 7 SENSE (in) "Output voltage sense input", 8 NC "No Connection"

## TPS71025DR
designator U?
Dual Output LDO, 500 mA, Fixed 2.5 V Output, 2.97 to 10 V Input, 8-pin SOIC (D), 0 to 125 degC, Green (RoHS & no Sb/Br); Manufacturer: Texas Instruments; PartNumber: TPS71025DR; Fixed Output Options(V): 2.5; Iout(Max)(A): 0.5; Iq(Typ)(mA): 0.28; SubFamily: Dual Channel LDO; Vdo(Typ)(mV): 330; Vin(Max)(V): 10; Vin(Min)(V): 2.97; DatasheetVersion: SLVS162A; PackageVersion: 4040047-3/M; PackageReference: D8; PackageDescription: 8-Pin Plastic Small Outline, Body 4.9 x 3.9 mm, Pitch 1.27 mm; Supplier 1: Digi-Key; Supplier Part Number 1: 296-8043-2-ND; Supplier 2: Digi-Key; Supplier Part Number 2: 296-8043-1-ND; Supplier 3: Digi-Key; Supplier Part Number 3: 296-8043-6-ND; Supplier 4: Newark; Supplier Part Number 4: 92B9802; Supplier 5: Mouser; Supplier Part Number 5: 595-TPS71025DR; Eco-Plan: Green (RoHS & no Sb/Br); Vout(Max)(V): 2.5; Vout(Min)(V): 2.5; Mounting Technology: Surface Mount; Code_JEDEC: MS-012; ComponentLink1Description: Manufacturer URL; ComponentLink1URL: http://www.ti.com/; ComponentLink2Description: Datasheet; ComponentLink2URL: http://www.ti.com/general/docs/lit/getliterature.tsp?genericPartNumber=TPS71025&fileType=pdf; ComponentLink3Description: Package Specification; ComponentLink3URL: http://www.ti.com/litv/pdf/msoi002j
footprint TI-D8_N (SOIC, 8-Leads, Body 4.9x3.9mm, Pitch 1.27mm, IPC Medium Density)
footprint TI-D8_L (SOIC, 8-Leads, Body 4.9x3.9mm, Pitch 1.27mm, IPC High Density)
footprint TI-D8_M (SOIC, 8-Leads, Body 4.9x3.9mm, Pitch 1.27mm, IPC Low Density)
pins: 1 GND (power) "Ground", 2 ~{EN} (in) "Enable input. Logic low enables output", 3 IN (power) "Input supply voltage", 4 IN (power) "Input supply voltage", 5 OUT (power) "Output voltage", 6 OUT (power) "Output voltage", 7 SENSE (in) "Output voltage sense input", 8 NC "No Connection"

## TPS71025DRG4
designator U?
Dual Output LDO, 500 mA, Fixed 2.5 V Output, 2.97 to 10 V Input, 8-pin SOIC (D), 0 to 125 degC, Green (RoHS & no Sb/Br); Manufacturer: Texas Instruments; PartNumber: TPS71025DRG4; Fixed Output Options(V): 2.5; Iout(Max)(A): 0.5; Iq(Typ)(mA): 0.28; SubFamily: Dual Channel LDO; Vdo(Typ)(mV): 330; Vin(Max)(V): 10; Vin(Min)(V): 2.97; DatasheetVersion: SLVS162A; PackageVersion: 4040047-3/M; PackageReference: D8; PackageDescription: 8-Pin Plastic Small Outline, Body 4.9 x 3.9 mm, Pitch 1.27 mm; Supplier 1: Digi-Key; Supplier Part Number 1: TPS71025DRG4-ND; Supplier 2: Newark; Supplier Part Number 2: 54K1770; Supplier 3: Mouser; Supplier Part Number 3: 595-TPS71025DRG4; Eco-Plan: Green (RoHS & no Sb/Br); Vout(Max)(V): 2.5; Vout(Min)(V): 2.5; Mounting Technology: Surface Mount; Code_JEDEC: MS-012; ComponentLink1Description: Manufacturer URL; ComponentLink1URL: http://www.ti.com/; ComponentLink2Description: Datasheet; ComponentLink2URL: http://www.ti.com/general/docs/lit/getliterature.tsp?genericPartNumber=TPS71025&fileType=pdf; ComponentLink3Description: Package Specification; ComponentLink3URL: http://www.ti.com/litv/pdf/msoi002j
footprint TI-D8_N (SOIC, 8-Leads, Body 4.9x3.9mm, Pitch 1.27mm, IPC Medium Density)
footprint TI-D8_L (SOIC, 8-Leads, Body 4.9x3.9mm, Pitch 1.27mm, IPC High Density)
footprint TI-D8_M (SOIC, 8-Leads, Body 4.9x3.9mm, Pitch 1.27mm, IPC Low Density)
pins: 1 GND (power) "Ground", 2 ~{EN} (in) "Enable input. Logic low enables output", 3 IN (power) "Input supply voltage", 4 IN (power) "Input supply voltage", 5 OUT (power) "Output voltage", 6 OUT (power) "Output voltage", 7 SENSE (in) "Output voltage sense input", 8 NC "No Connection"

## TPS71025P
designator U?
Dual Output LDO, 500 mA, Fixed 2.5 V Output, 2.97 to 10 V Input, 8-pin PDIP (P), 0 to 125 degC, Pb-Free (RoHS); Manufacturer: Texas Instruments; PartNumber: TPS71025P; Fixed Output Options(V): 2.5; Iout(Max)(A): 0.5; Iq(Typ)(mA): 0.28; SubFamily: Dual Channel LDO; Vdo(Typ)(mV): 330; Vin(Max)(V): 10; Vin(Min)(V): 2.97; DatasheetVersion: SLVS162A; PackageVersion: 4040082/E; PackageReference: P8; PackageDescription: 8-Pin Plastic In-Line, Body 9.59 x 6.35 mm, 2.54 mm Pitch; Supplier 1: Digi-Key; Supplier Part Number 1: 296-2657-5-ND; Supplier 2: Newark; Supplier Part Number 2: 35C2218; Supplier 3: Mouser; Supplier Part Number 3: 595-TPS71025P; Eco-Plan: Pb-Free (RoHS); Vout(Max)(V): 2.5; Vout(Min)(V): 2.5; Mounting Technology: Through Hole; Code_JEDEC: MS-001; ComponentLink1Description: Manufacturer URL; ComponentLink1URL: http://www.ti.com/; ComponentLink2Description: Datasheet; ComponentLink2URL: http://www.ti.com/general/docs/lit/getliterature.tsp?genericPartNumber=TPS71025&fileType=pdf; ComponentLink3Description: Package Specification; ComponentLink3URL: http://www.ti.com/litv/pdf/mpdi001b
footprint TI-P8 (DIP, 8-Leads, Body 9.59x6.35mm, Pitch 2.54mm)
pins: 1 GND (power) "Ground", 2 ~{EN} (in) "Enable input. Logic low enables output", 3 IN (power) "Input supply voltage", 4 IN (power) "Input supply voltage", 5 OUT (power) "Output voltage", 6 OUT (power) "Output voltage", 7 SENSE (in) "Output voltage sense input", 8 NC "No Connection"

## TPS71025PE4
designator U?
Dual Output LDO, 500 mA, Fixed 2.5 V Output, 2.97 to 10 V Input, 8-pin PDIP (P), 0 to 125 degC, Pb-Free (RoHS); Manufacturer: Texas Instruments; PartNumber: TPS71025PE4; Fixed Output Options(V): 2.5; Iout(Max)(A): 0.5; Iq(Typ)(mA): 0.28; SubFamily: Dual Channel LDO; Vdo(Typ)(mV): 330; Vin(Max)(V): 10; Vin(Min)(V): 2.97; DatasheetVersion: SLVS162A; PackageVersion: 4040082/E; PackageReference: P8; PackageDescription: 8-Pin Plastic In-Line, Body 9.59 x 6.35 mm, 2.54 mm Pitch; Supplier 1: Digi-Key; Supplier Part Number 1: TPS71025PE4-ND; Supplier 2: Mouser; Supplier Part Number 2: 595-TPS71025PE4; Eco-Plan: Pb-Free (RoHS); Vout(Max)(V): 2.5; Vout(Min)(V): 2.5; Mounting Technology: Through Hole; Code_JEDEC: MS-001; ComponentLink1Description: Manufacturer URL; ComponentLink1URL: http://www.ti.com/; ComponentLink2Description: Datasheet; ComponentLink2URL: http://www.ti.com/general/docs/lit/getliterature.tsp?genericPartNumber=TPS71025&fileType=pdf; ComponentLink3Description: Package Specification; ComponentLink3URL: http://www.ti.com/litv/pdf/mpdi001b
footprint TI-P8 (DIP, 8-Leads, Body 9.59x6.35mm, Pitch 2.54mm)
pins: 1 GND (power) "Ground", 2 ~{EN} (in) "Enable input. Logic low enables output", 3 IN (power) "Input supply voltage", 4 IN (power) "Input supply voltage", 5 OUT (power) "Output voltage", 6 OUT (power) "Output voltage", 7 SENSE (in) "Output voltage sense input", 8 NC "No Connection"

## TPS71025PWR
designator U?
Dual Output LDO, 500 mA, Fixed 2.5 V Output, 2.97 to 10 V Input, 20-pin TSSOP (PW), 0 to 125 degC, Green (RoHS & no Sb/Br); Manufacturer: Texas Instruments; PartNumber: TPS71025PWR; Fixed Output Options(V): 2.5; Iout(Max)(A): 0.5; Iq(Typ)(mA): 0.28; SubFamily: Dual Channel LDO; Vdo(Typ)(mV): 330; Vin(Max)(V): 10; Vin(Min)(V): 2.97; DatasheetVersion: SLVS162A; PackageVersion: 4040064-5/G; PackageReference: PW20; PackageDescription: 20-Pin Plastic Small Outline, Body 6.5 x 4.4 mm, 0.65 mm Pitch; Supplier 1: Digi-Key; Supplier Part Number 1: 296-8045-2-ND; Supplier 2: Digi-Key; Supplier Part Number 2: 296-8045-1-ND; Supplier 3: Digi-Key; Supplier Part Number 3: 296-8045-6-ND; Supplier 4: Mouser; Supplier Part Number 4: 595-TPS71025PWR; Eco-Plan: Green (RoHS & no Sb/Br); Vout(Max)(V): 2.5; Vout(Min)(V): 2.5; Mounting Technology: Surface Mount; Code_JEDEC: MO-153; ComponentLink1Description: Manufacturer URL; ComponentLink1URL: http://www.ti.com/; ComponentLink2Description: Datasheet; ComponentLink2URL: http://www.ti.com/general/docs/lit/getliterature.tsp?genericPartNumber=TPS71025&fileType=pdf; ComponentLink3Description: Package Specification; ComponentLink3URL: http://www.ti.com.cn/cn/lit/ml/mpds362/mpds362.pdf
footprint TI-PW20_N (SOP, 20-Leads, Body 6.5x4.4mm, Pitch 0.65mm, IPC Medium Density)
footprint TI-PW20_L (SOP, 20-Leads, Body 6.5x4.4mm, Pitch 0.65mm, IPC High Density)
footprint TI-PW20_M (SOP, 20-Leads, Body 6.5x4.4mm, Pitch 0.65mm, IPC Low Density)
part A pins: 1 GND (power) "Ground", 2 GND (power) "Ground", 3 GND (power) "Ground", 6 ~{EN} (in) "Enable input. Logic low enables output", 8 IN (power) "Input supply voltage", 9 IN (power) "Input supply voltage", 10 IN (power) "Input supply voltage", 13 OUT (power) "Output voltage", 14 OUT (power) "Output voltage", 15 SENSE (in) "Output voltage sense input"
part B pins: 4 NC "No internal connection", 5 NC "No internal connection", 7 NC "No internal connection", 11 NC "No internal connection", 12 NC "No internal connection", 16 NC "No internal connection", 17 NC "No internal connection", 18 NC "No internal connection", 19 NC "No internal connection", 20 NC "No internal connection"

## TPS71025PWRG4
designator U?
Dual Output LDO, 500 mA, Fixed 2.5 V Output, 2.97 to 10 V Input, 20-pin TSSOP (PW), 0 to 125 degC, Green (RoHS & no Sb/Br); Manufacturer: Texas Instruments; PartNumber: TPS71025PWRG4; Fixed Output Options(V): 2.5; Iout(Max)(A): 0.5; Iq(Typ)(mA): 0.28; SubFamily: Dual Channel LDO; Vdo(Typ)(mV): 330; Vin(Max)(V): 10; Vin(Min)(V): 2.97; DatasheetVersion: SLVS162A; PackageVersion: 4040064-5/G; PackageReference: PW20; PackageDescription: 20-Pin Plastic Small Outline, Body 6.5 x 4.4 mm, 0.65 mm Pitch; Supplier 1: Digi-Key; Supplier Part Number 1: TPS71025PWRG4-ND; Supplier 2: Mouser; Supplier Part Number 2: 595-TPS71025PWRG4; Eco-Plan: Green (RoHS & no Sb/Br); Vout(Max)(V): 2.5; Vout(Min)(V): 2.5; Mounting Technology: Surface Mount; Code_JEDEC: MO-153; ComponentLink1Description: Manufacturer URL; ComponentLink1URL: http://www.ti.com/; ComponentLink2Description: Datasheet; ComponentLink2URL: http://www.ti.com/general/docs/lit/getliterature.tsp?genericPartNumber=TPS71025&fileType=pdf; ComponentLink3Description: Package Specification; ComponentLink3URL: http://www.ti.com.cn/cn/lit/ml/mpds362/mpds362.pdf
footprint TI-PW20_N (SOP, 20-Leads, Body 6.5x4.4mm, Pitch 0.65mm, IPC Medium Density)
footprint TI-PW20_L (SOP, 20-Leads, Body 6.5x4.4mm, Pitch 0.65mm, IPC High Density)
footprint TI-PW20_M (SOP, 20-Leads, Body 6.5x4.4mm, Pitch 0.65mm, IPC Low Density)
part A pins: 1 GND (power) "Ground", 2 GND (power) "Ground", 3 GND (power) "Ground", 6 ~{EN} (in) "Enable input. Logic low enables output", 8 IN (power) "Input supply voltage", 9 IN (power) "Input supply voltage", 10 IN (power) "Input supply voltage", 13 OUT (power) "Output voltage", 14 OUT (power) "Output voltage", 15 SENSE (in) "Output voltage sense input"
part B pins: 4 NC "No internal connection", 5 NC "No internal connection", 7 NC "No internal connection", 11 NC "No internal connection", 12 NC "No internal connection", 16 NC "No internal connection", 17 NC "No internal connection", 18 NC "No internal connection", 19 NC "No internal connection", 20 NC "No internal connection"

## TPS71202DRCR
designator U?
Dual Output High PSRR LDO, 200 mA, 2.7 to 5.5 V Input, 10-pin SON (DRC), -40 to 125 degC, Green (RoHS & no Sb/Br); Manufacturer: Texas Instruments; PartNumber: TPS71202DRCR; Iout(Max)(A): 0.2; Iq(Typ)(mA): 0.3; SubFamily: Dual Channel LDO; Vdo(Typ)(mV): 125; Vin(Max)(V): 5.5; Vin(Min)(V): 2.7; Vout(Min)(V): 1.2; DatasheetVersion: SBVS049D; PackageVersion: 4204102-3/L; PackageReference: DRC10-2400X1650TP; PackageDescription: 10-Pin Plastic Small Outline, Body 3 x 3 mm, Pitch 0.5 mm; Supplier 1: Digi-Key; Supplier Part Number 1: TPS71202DRCR-ND; Supplier 2: Mouser; Supplier Part Number 2: 595-TPS71202DRCR; Eco-Plan: Green (RoHS & no Sb/Br); Iout2(A): 0.2; Vout(Max)(V): 5.5; Vout2(Max)(V): 5.5; Vout2(Min)(V): 1.2; Mounting Technology: Surface Mount; ComponentLink1Description: Manufacturer URL; ComponentLink1URL: http://www.ti.com/; ComponentLink2Description: Datasheet; ComponentLink2URL: http://www.ti.com/general/docs/lit/getliterature.tsp?genericPartNumber=TPS71202&fileType=pdf; ComponentLink3Description: Package Specification; ComponentLink3URL: http://www.ti.com/litv/pdf/mpds117k
footprint TI-DRC10-2400X1650TP_V (SON, 10-Leads, Body 3x3mm, Pitch 0.5mm, Thermal Pad 3x1.65mm)
pins: 1 IN (power) "Unregulated input supply. A small 0.1 uF capacitor should be connected from IN to GND.", 2 NC "No connection.", 3 OUT1 (power) "Output of the regulator. A small 2.2 uF ceramic capacitor is required from this pin to ground to assure stability.", 4 OUT2 (power) "Same as OUT1 but for LDO2.", 5 GND (power) "Ground", 6 NR "Noise reduction pin; connect an external bypass capacitor to reduce LDO output noise.", 7 FB2 (in) "Feedback for CH2 adjustable version", 8 EN2 (in) "Same as EN1 but controls LDO2.", 9 FB1 (in) "Feedback for CH1 adjustable version", 10 EN1 (in) "Driving the enable pin (EN) high turns on LDO1. Driving this pin low puts LDO1 into shutdown mode,reducing operating current. The enable pin should be connected to IN if not used.", 11 GND (power) "Ground"

## TPS71202DRCRG4
designator U?
Dual Output High PSRR LDO, 200 mA, 2.7 to 5.5 V Input, 10-pin SON (DRC), -40 to 125 degC, Green (RoHS & no Sb/Br); Manufacturer: Texas Instruments; PartNumber: TPS71202DRCRG4; Iout(Max)(A): 0.2; Iq(Typ)(mA): 0.3; SubFamily: Dual Channel LDO; Vdo(Typ)(mV): 125; Vin(Max)(V): 5.5; Vin(Min)(V): 2.7; Vout(Min)(V): 1.2; DatasheetVersion: SBVS049D; PackageVersion: 4204102-3/L; PackageReference: DRC10-2400X1650TP; PackageDescription: 10-Pin Plastic Small Outline, Body 3 x 3 mm, Pitch 0.5 mm; Supplier 1: Digi-Key; Supplier Part Number 1: TPS71202DRCRG4-ND; Supplier 2: Mouser; Supplier Part Number 2: 595-TPS71202DRCRG4; Eco-Plan: Green (RoHS & no Sb/Br); Iout2(A): 0.2; Vout(Max)(V): 5.5; Vout2(Max)(V): 5.5; Vout2(Min)(V): 1.2; Mounting Technology: Surface Mount; ComponentLink1Description: Manufacturer URL; ComponentLink1URL: http://www.ti.com/; ComponentLink2Description: Datasheet; ComponentLink2URL: http://www.ti.com/general/docs/lit/getliterature.tsp?genericPartNumber=TPS71202&fileType=pdf; ComponentLink3Description: Package Specification; ComponentLink3URL: http://www.ti.com/litv/pdf/mpds117k
footprint TI-DRC10-2400X1650TP_V (SON, 10-Leads, Body 3x3mm, Pitch 0.5mm, Thermal Pad 3x1.65mm)
pins: 1 IN (power) "Unregulated input supply. A small 0.1 uF capacitor should be connected from IN to GND.", 2 NC "No connection.", 3 OUT1 (power) "Output of the regulator. A small 2.2 uF ceramic capacitor is required from this pin to ground to assure stability.", 4 OUT2 (power) "Same as OUT1 but for LDO2.", 5 GND (power) "Ground", 6 NR "Noise reduction pin; connect an external bypass capacitor to reduce LDO output noise.", 7 FB2 (in) "Feedback for CH2 adjustable version", 8 EN2 (in) "Same as EN1 but controls LDO2.", 9 FB1 (in) "Feedback for CH1 adjustable version", 10 EN1 (in) "Driving the enable pin (EN) high turns on LDO1. Driving this pin low puts LDO1 into shutdown mode,reducing operating current. The enable pin should be connected to IN if not used.", 11 GND (power) "Ground"

## TPS71202DRCT
designator U?
Dual Output High PSRR LDO, 200 mA, 2.7 to 5.5 V Input, 10-pin SON (DRC), -40 to 125 degC, Green (RoHS & no Sb/Br); Manufacturer: Texas Instruments; PartNumber: TPS71202DRCT; Iout(Max)(A): 0.2; Iq(Typ)(mA): 0.3; SubFamily: Dual Channel LDO; Vdo(Typ)(mV): 125; Vin(Max)(V): 5.5; Vin(Min)(V): 2.7; Vout(Min)(V): 1.2; DatasheetVersion: SBVS049D; PackageVersion: 4204102-3/L; PackageReference: DRC10-2400X1650TP; PackageDescription: 10-Pin Plastic Small Outline, Body 3 x 3 mm, Pitch 0.5 mm; Supplier 1: Digi-Key; Supplier Part Number 1: 296-17696-2-ND; Supplier 2: Digi-Key; Supplier Part Number 2: 296-17696-1-ND; Supplier 3: Digi-Key; Supplier Part Number 3: 296-17696-6-ND; Supplier 4: Newark; Supplier Part Number 4: 73J8391; Supplier 5: Mouser; Supplier Part Number 5: 595-TPS71202DRCT; Eco-Plan: Green (RoHS & no Sb/Br); Iout2(A): 0.2; Vout(Max)(V): 5.5; Vout2(Max)(V): 5.5; Vout2(Min)(V): 1.2; Mounting Technology: Surface Mount; ComponentLink1Description: Manufacturer URL; ComponentLink1URL: http://www.ti.com/; ComponentLink2Description: Datasheet; ComponentLink2URL: http://www.ti.com/general/docs/lit/getliterature.tsp?genericPartNumber=TPS71202&fileType=pdf; ComponentLink3Description: Package Specification; ComponentLink3URL: http://www.ti.com/litv/pdf/mpds117k
footprint TI-DRC10-2400X1650TP_V (SON, 10-Leads, Body 3x3mm, Pitch 0.5mm, Thermal Pad 3x1.65mm)
pins: 1 IN (power) "Unregulated input supply. A small 0.1 uF capacitor should be connected from IN to GND.", 2 NC "No connection.", 3 OUT1 (power) "Output of the regulator. A small 2.2 uF ceramic capacitor is required from this pin to ground to assure stability.", 4 OUT2 (power) "Same as OUT1 but for LDO2.", 5 GND (power) "Ground", 6 NR "Noise reduction pin; connect an external bypass capacitor to reduce LDO output noise.", 7 FB2 (in) "Feedback for CH2 adjustable version", 8 EN2 (in) "Same as EN1 but controls LDO2.", 9 FB1 (in) "Feedback for CH1 adjustable version", 10 EN1 (in) "Driving the enable pin (EN) high turns on LDO1. Driving this pin low puts LDO1 into shutdown mode,reducing operating current. The enable pin should be connected to IN if not used.", 11 GND (power) "Ground"